# Altium footprint library PcbLib2.PcbLib: 14 footprints
Each footprint in its own frame and in the unit in brackets; x right, y up, seen from the top. Pads: shape width x height; smd on the part's side, far side on the other; paste and mask are expansions set on the pad; w line width, h text height; cw(c..) or ccw(c..) is an arc to the next point about the centre after c.
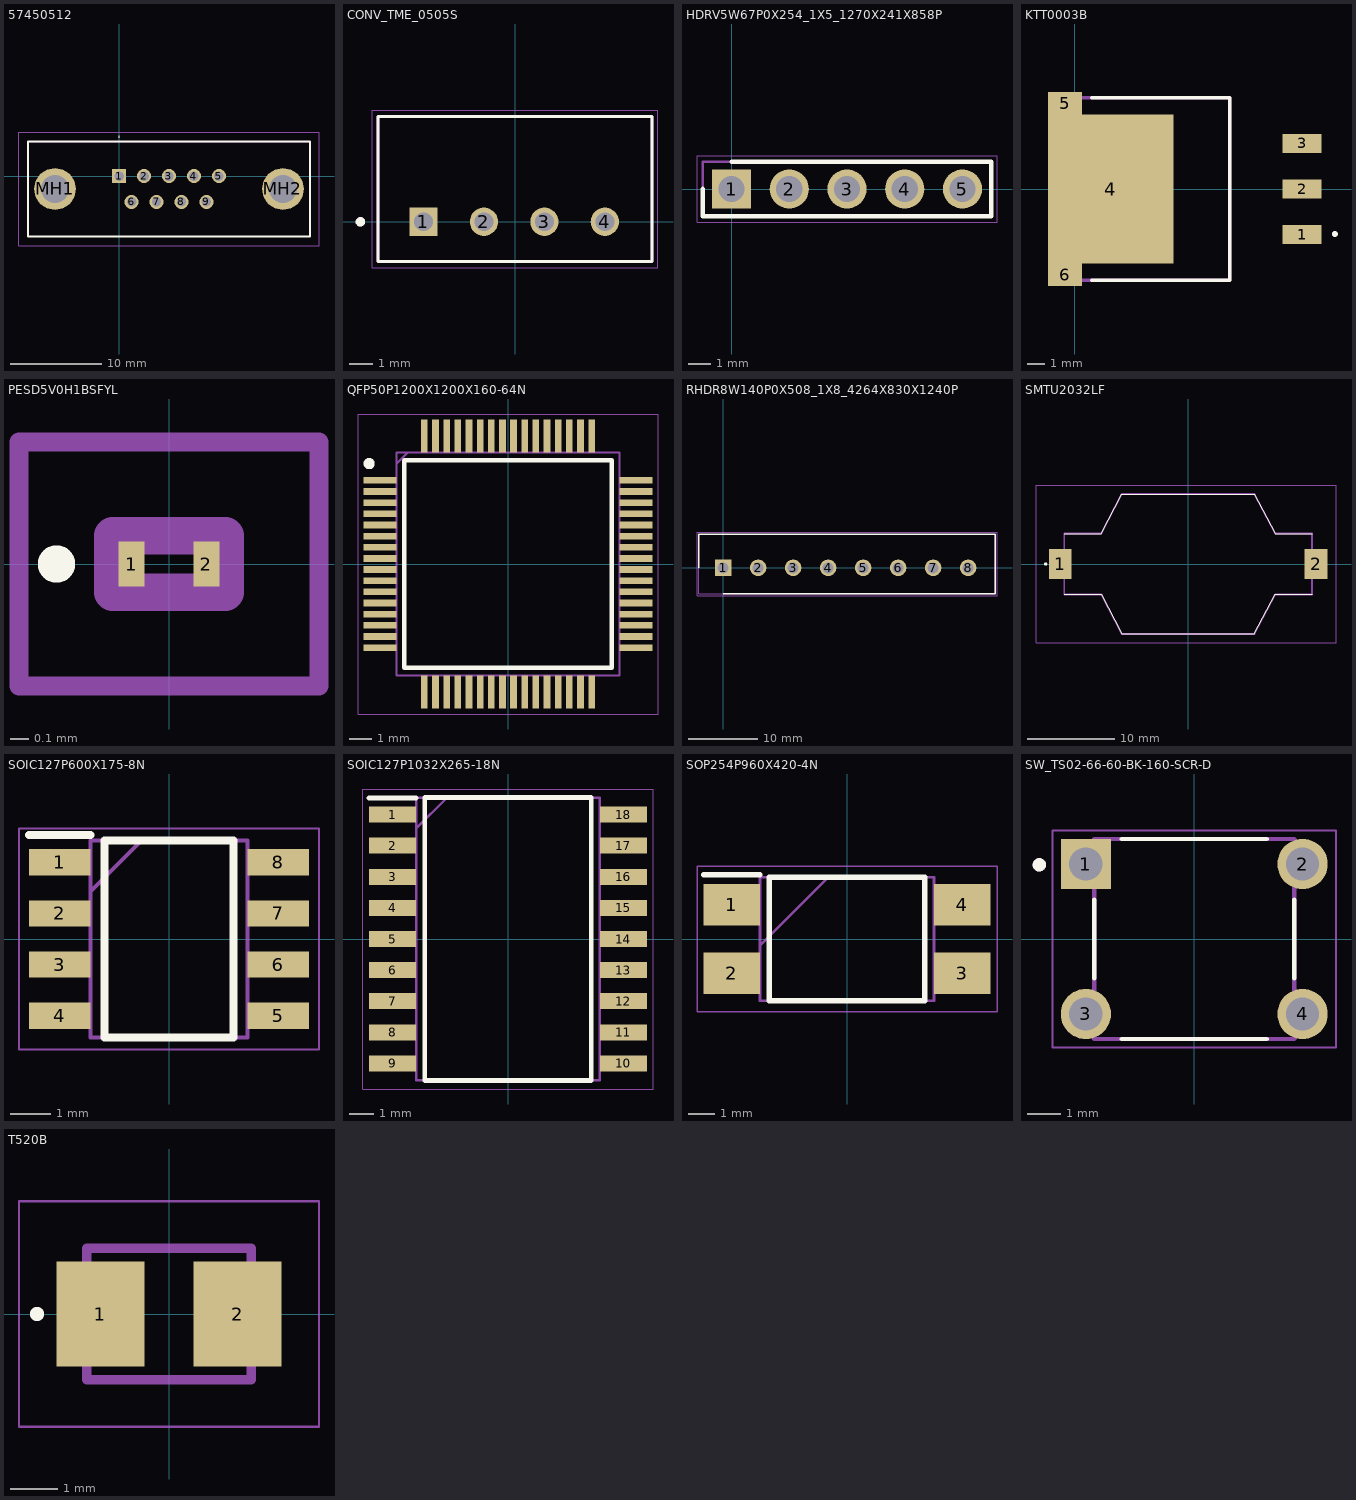
[diagram p0: the footprints below, top view; thin cyan lines are the x and y axes]

## 57450512 [mm]
pads (11):
  rect 1.56x1.56 hole 1.04: 1(0,0)
  round 1.56 hole 1.04: 2(2.74,0) 3(5.48,0) 4(8.22,0) 5(10.96,0) 6(1.37,-2.84) 7(4.11,-2.84) 8(6.85,-2.84) 9(9.59,-2.84)
  round 4.575 hole 3.05: MH1(-7.015,-1.42) MH2(17.975,-1.42)
Top Overlay:
  lines w0.1: 0,4.28 cw(c0,4.33) 0,4.38 cw(c0,4.33) 0,4.28
  lines w0.2: -9.965,-6.625 -9.965,3.785 20.925,3.785 20.925,-6.625 -9.965,-6.625
Mechanical 15:
  lines w0.1: -9.965,-6.625 -9.965,3.785 20.925,3.785 20.925,-6.625 -9.965,-6.625
Mechanical 20:
  lines w0.1: -10.965,-7.625 -10.965,4.785 21.925,4.785 21.925,-7.625 -10.965,-7.625
3D body "5745051-2.stp": height 12.09, standoff -3.17, extent -9.982,-6.604 20.904,3.81

## CONV_TME_0505S [mm]
pads (4):
  rect 1.19x1.19 hole 0.79: 1(-3.85,0)
  round 1.19 hole 0.79: 2(-1.31,0) 3(1.23,0) 4(3.77,0)
Top Overlay:
  circle w0.2: c-6.5,0 r0.1
  lines w0.127: -5.75,-1.673 -5.75,4.427 5.75,4.427 5.75,-1.673 -5.75,-1.673
Mechanical 13:
  circle w0.2: c-6.5,0 r0.1
  lines w0.127: -5.75,-1.673 -5.75,4.427 5.75,4.427 5.75,-1.673 -5.75,-1.673
Mechanical 15:
  lines w0.05: -6,-1.923 -6,4.677 6,4.677 6,-1.923 -6,-1.923
3D body "step_temp.STEP": height 9.91, standoff -3.19, extent -5.7,-1.73 5.7,4.27

## HDRV5W67P0X254_1X5_1270X241X858P [mm]
pads (5):
  rect 1.725x1.725 / inner round 1.725 / far side rect 1.725x1.725 hole 1.15: 1(0,0)
  round 1.725 hole 1.15: 2(2.54,0) 3(5.08,0) 4(7.62,0) 5(10.16,0)
Top Overlay:
  lines w0.2: -1.27,0 -1.27,-1.205 11.43,-1.205 11.43,1.205 0,1.205
Mechanical 15:
  lines w0.1: -1.27,-1.205 11.43,-1.205 11.43,1.205 -1.27,1.205 -1.27,-1.205
Mechanical 20:
  lines w0.05: -1.52,-1.455 11.68,-1.455 11.68,1.455 -1.52,1.455 -1.52,-1.455
3D body "68000-105HTLF.stp": height 5.8, standoff -4.65, extent -10,-3.376 10,3.376

## KTT0003B [mm]
pads (6):
  rect 2.16x1.07 smd: 1(12.67,-2.54) 2(12.67,0) 3(12.67,2.54)
  rect 7x8.33 smd: 4(2,0)
  rect 1.91x1.235 smd: 5(-0.545,4.782) 6(-0.545,-4.782)
Top Overlay:
  circle w0.2: c14.497,-2.51 r0.065
  lines w0.2: 0.94,-5.08 8.64,-5.08 8.64,5.08 0.94,5.08
Mechanical 15:
  lines w0.2: 0,-5.08 8.64,-5.08 8.64,5.08 0,5.08 0,-5.08
3D body "LM7805S_NOPB.stp": height 4.54, standoff 0, extent -1.472,-5.08 13.767,5.08

## PCBComponent_1 [mm]

## PESD5V0H1BSFYL [mm]
pads (2):
  rect 0.14x0.24 smd: 1(-0.2,0) 2(0.2,0)
Top Overlay:
  lines w0.1: -0.6,-0.05 ccw(c-0.6,0) -0.6,0.05 ccw(c-0.6,0) -0.6,-0.05
Mechanical 15:
  lines w0.2: -0.3,-0.15 -0.3,0.15 0.3,0.15 0.3,-0.15 -0.3,-0.15
Mechanical 20:
  lines w0.1: -0.8,-0.65 -0.8,0.65 0.8,0.65 0.8,-0.65 -0.8,-0.65
3D body "PESD5V5H1BSFYL.stp": height 5.8, standoff -4.65, extent -10,-3.376 10,3.376

## QFP50P1200X1200X160-64N [mm]
pads (64):
  rect 1.475x0.3 smd: 1(-5.738,3.75) 2(-5.738,3.25) 3(-5.738,2.75) 4(-5.738,2.25) 5(-5.738,1.75) 6(-5.738,1.25) 7(-5.738,0.75) 8(-5.738,0.25) 9(-5.738,-0.25) 10(-5.738,-0.75) 11(-5.738,-1.25) 12(-5.738,-1.75) 13(-5.738,-2.25) 14(-5.738,-2.75) 15(-5.738,-3.25) 16(-5.738,-3.75) 33(5.738,-3.75) 34(5.738,-3.25) 35(5.738,-2.75) 36(5.738,-2.25) 37(5.738,-1.75) 38(5.738,-1.25) 39(5.738,-0.75) 40(5.738,-0.25) 41(5.738,0.25) 42(5.738,0.75) 43(5.738,1.25) 44(5.738,1.75) 45(5.738,2.25) 46(5.738,2.75) 47(5.738,3.25) 48(5.738,3.75)
  rect 0.3x1.475 smd: 17(-3.75,-5.738) 18(-3.25,-5.738) 19(-2.75,-5.738) 20(-2.25,-5.738) 21(-1.75,-5.738) 22(-1.25,-5.738) 23(-0.75,-5.738) 24(-0.25,-5.738) 25(0.25,-5.738) 26(0.75,-5.738) 27(1.25,-5.738) 28(1.75,-5.738) 29(2.25,-5.738) 30(2.75,-5.738) 31(3.25,-5.738) 32(3.75,-5.738) 49(3.75,5.738) 50(3.25,5.738) 51(2.75,5.738) 52(2.25,5.738) 53(1.75,5.738) 54(1.25,5.738) 55(0.75,5.738) 56(0.25,5.738) 57(-0.25,5.738) 58(-0.75,5.738) 59(-1.25,5.738) 60(-1.75,5.738) 61(-2.25,5.738) 62(-2.75,5.738) 63(-3.25,5.738) 64(-3.75,5.738)
Top Overlay:
  circle w0.25: c-6.225,4.5 r0.125
  lines w0.2: -4.65,-4.65 4.65,-4.65 4.65,4.65 -4.65,4.65 -4.65,-4.65
Mechanical 15:
  lines w0.1: -5,4.5 -4.5,5 ; -5,-5 5,-5 5,5 -5,5 -5,-5
Mechanical 20:
  lines w0.05: -6.725,-6.725 6.725,-6.725 6.725,6.725 -6.725,6.725 -6.725,-6.725
3D body "STM32L071RBT7.stp": height 5.8, standoff -4.65, extent -10,-3.376 10,3.376

## RHDR8W140P0X508_1X8_4264X830X1240P [mm]
pads (8):
  rect 2.4x2.4 / inner round 2.4 / far side rect 2.4x2.4 hole 1.6: 1(0,0)
  round 2.4 hole 1.6: 2(5.08,0) 3(10.16,0) 4(15.24,0) 5(20.32,0) 6(25.4,0) 7(30.48,0) 8(35.56,0)
Top Overlay:
  lines w0.2: -3.54,0 -3.54,4.9 39.5,4.9 39.5,-3.8 0,-3.8
Mechanical 15:
  lines w0.1: -3.54,-3.8 39.5,-3.8 39.5,4.9 -3.54,4.9 -3.54,-3.8
Mechanical 20:
  lines w0.05: -3.79,-4.05 39.75,-4.05 39.75,5.15 -3.79,5.15 -3.79,-4.05
3D body "39531-1008.stp": height 5.8, standoff -4.65, extent -10,-3.376 10,3.376

## SMTU2032LF [mm]
pads (2):
  rect 2.6x3.5 smd: 1(-14.7,0) 2(14.7,0)
Top Overlay:
  lines w0.1: -14.25,-3.5 -10,-3.5 -7.62,-8.05 7.62,-8.05 10,-3.5 14.25,-3.5 ; -14.25,3.5 -10,3.5 -7.62,8.05 7.62,8.05 10,3.5 14.25,3.5
  lines w0.2: -16.4,-0.1 cw(c-16.4,0) -16.4,0.1 cw(c-16.4,0) -16.4,-0.1
Mechanical 15:
  lines w0.2: -14.25,-3.5 -10,-3.5 -7.62,-8.05 7.62,-8.05 10,-3.5 14.25,-3.5 14.25,3.5 10,3.5 7.62,8.05 -7.62,8.05 -10,3.5 -14.25,3.5 -14.25,-3.5
Mechanical 20:
  lines w0.1: -17.5,-9.05 -17.5,9.05 17,9.05 17,-9.05 -17.5,-9.05
3D body "SMTU2032-LF.stp": height 5.2, standoff -0.2, extent -15.9,-8.177 15.9,7.923

## SOIC127P600X175-8N [mm]
pads (8):
  rect 1.525x0.65 smd: 1(-2.712,1.905) 2(-2.712,0.635) 3(-2.712,-0.635) 4(-2.712,-1.905) 5(2.712,-1.905) 6(2.712,-0.635) 7(2.712,0.635) 8(2.712,1.905)
Top Overlay:
  lines w0.2: -3.475,2.58 -1.95,2.58 ; -1.6,-2.45 1.6,-2.45 1.6,2.45 -1.6,2.45 -1.6,-2.45
Mechanical 15:
  lines w0.1: -1.95,1.18 -0.68,2.45 ; -1.95,-2.45 1.95,-2.45 1.95,2.45 -1.95,2.45 -1.95,-2.45
Mechanical 20:
  lines w0.05: -3.725,-2.75 3.725,-2.75 3.725,2.75 -3.725,2.75 -3.725,-2.75
3D body "MAX13488EESA+T.stp": height 5.8, standoff -4.65, extent -10,-3.376 10,3.376

## SOIC127P1032X265-18N [mm]
pads (18):
  rect 1.925x0.65 smd: 1(-4.712,5.08) 2(-4.712,3.81) 3(-4.712,2.54) 4(-4.712,1.27) 5(-4.712,0) 6(-4.712,-1.27) 7(-4.712,-2.54) 8(-4.712,-3.81) 9(-4.712,-5.08) 10(4.712,-5.08) 11(4.712,-3.81) 12(4.712,-2.54) 13(4.712,-1.27) 14(4.712,0) 15(4.712,1.27) 16(4.712,2.54) 17(4.712,3.81) 18(4.712,5.08)
Top Overlay:
  lines w0.2: -5.675,5.755 -3.75,5.755 ; -3.4,-5.775 3.4,-5.775 3.4,5.775 -3.4,5.775 -3.4,-5.775
Mechanical 15:
  lines w0.1: -3.75,4.505 -2.48,5.775 ; -3.75,-5.775 3.75,-5.775 3.75,5.775 -3.75,5.775 -3.75,-5.775
Mechanical 20:
  lines w0.05: -5.925,-6.125 5.925,-6.125 5.925,6.125 -5.925,6.125 -5.925,-6.125
3D body "MAX3222EWN+.stp": height 5.8, standoff -4.65, extent -10,-3.376 10,3.376

## SOP254P960X420-4N [mm]
pads (4):
  rect 2.1x1.55 smd: 1(-4.3,1.27) 2(-4.3,-1.27) 3(4.3,-1.27) 4(4.3,1.27)
Top Overlay:
  lines w0.2: -5.35,2.395 -3.25,2.395 ; -2.9,-2.3 2.9,-2.3 2.9,2.3 -2.9,2.3 -2.9,-2.3
Mechanical 15:
  lines w0.1: -3.25,-0.24 -0.71,2.3 ; -3.25,-2.3 3.25,-2.3 3.25,2.3 -3.25,2.3 -3.25,-2.3
Mechanical 20:
  lines w0.05: -5.6,-2.725 5.6,-2.725 5.6,2.725 -5.6,2.725 -5.6,-2.725
3D body "PC817XNNIP1B.stp": height 5.8, standoff -4.65, extent -10,-3.376 10,3.376

## SW_TS02-66-60-BK-160-SCR-D [mm]
pads (4):
  rect 1.508x1.508 / inner round 1.508 / far side rect 1.508x1.508 hole 1: 1(-3.25,2.25)
  round 1.508 hole 1: 2(3.25,2.25) 3(-3.25,-2.25) 4(3.25,-2.25)
Top Overlay:
  circle w0.2: c-4.647,2.226 r0.1
  lines w0.127: -3,-1.176 -3,1.176 ; -2.176,-3 2.176,-3 ; -2.176,3 2.176,3 ; 3,-1.176 3,1.176
Mechanical 13:
  circle w0.2: c-4.647,2.226 r0.1
  lines w0.127: -3,-3 -3,3 3,3 3,-3 -3,-3
Mechanical 15:
  lines w0.05: -4.254,-3.254 4.254,-3.254 4.254,3.254 -4.254,3.254 -4.254,-3.254

## T520B [mm]
pads (2):
  rect 1.87x2.23 smd: 1(-1.46,0) 2(1.46,0)
Top Overlay:
  circle w0.2: c-2.81,0 r0.05
Mechanical 15:
  lines w0.2: -1.75,-1.4 1.75,-1.4 1.75,1.4 -1.75,1.4 -1.75,-1.4
Mechanical 20:
  lines w0.05: -3.195,-2.4 3.195,-2.4 3.195,2.4 -3.195,2.4 -3.195,-2.4
3D body "T520B107M006ATE040.stp": height 5.8, standoff -4.65, extent -10,-3.376 10,3.376